# EAGLE library part MICRO_SD_READER (library fablab_uchile)
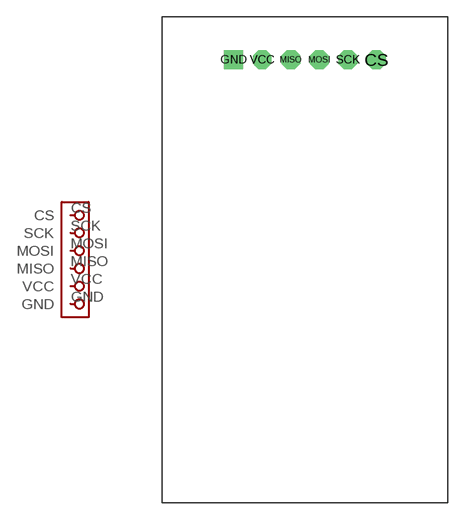
[diagram p1: symbol with the pads of MICRO_SD_READER; footprint MICRO_SD_READER]

Designator prefix -

## MICRO_SD_READER  [MICRO_SD_READER]
CS  CS
GND  GND
MISO  MISO
MOSI  MOSI
SCK  SCK
VCC  VCC

## Footprint MICRO_SD_READER (pad centres in mm)
drill 0.8 pad 1.676 octagon: CS 6.35,11.43; MISO -1.27,11.43; MOSI 1.27,11.43; SCK 3.81,11.43; VCC -3.81,11.43
drill 0.8 pad 1.676 square: GND -6.35,11.43